# Altium footprint library AP1509-33SG-13.PcbLib: 1 footprints
Each footprint in its own frame and in the unit in brackets; x right, y up, seen from the top. Pads: shape width x height; smd on the part's side, far side on the other; paste and mask are expansions set on the pad; w line width, h text height; cw(c..) or ccw(c..) is an arc to the next point about the centre after c.
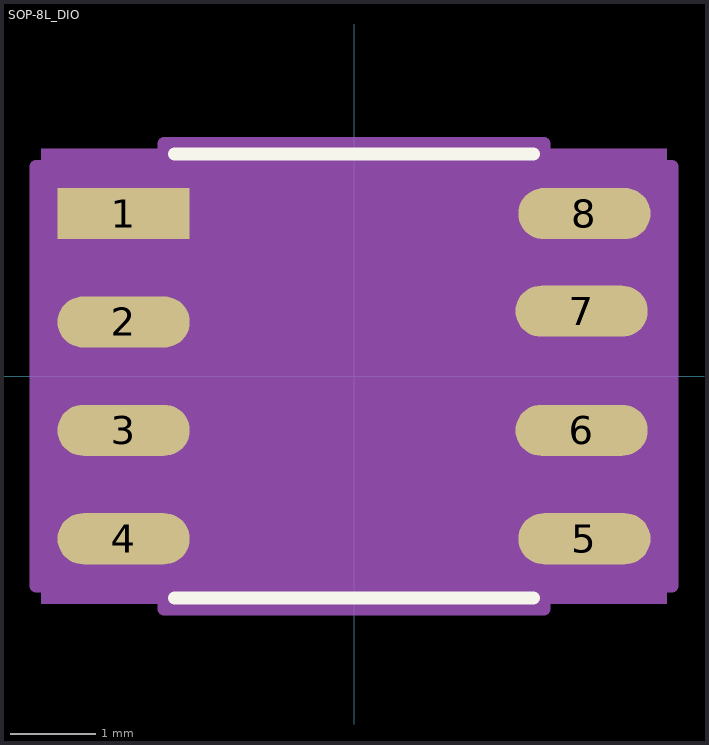
[diagram p0: the footprint, top view; thin cyan lines are the x and y axes]

## SOP-8L_DIO [mm]
pads (8):
  rect 1.55x0.6 smd paste+0 mask+0: 1(-2.7,1.905)
  oval 1.55x0.6 smd paste+0 mask+0: 2(-2.7,0.635) 3(-2.7,-0.635) 4(-2.7,-1.905) 5(2.7,-1.905) 6(2.667,-0.635) 7(2.667,0.762) 8(2.7,1.905)
Top Overlay:
  lines w0.152: -2.102,-2.602 2.102,-2.602 ; -2.102,2.602 2.102,2.602
Mechanical 5:
  region: 3.665,-2.665 -3.665,-2.665 -3.665,2.665 3.665,2.665
Mechanical 13:
  lines w0: -0.305,2.475 ccw(c0,2.475) 0.305,2.475
  lines w0.025: -1.975,-2.475 -1.975,2.475 1.975,2.475 1.975,-2.475 -1.975,-2.475
Mechanical 15:
  region: -2.229,-2.459 -3.729,-2.459 -3.729,2.459 -2.229,2.459 -2.229,2.729 2.229,2.729 2.229,2.459 3.729,2.459 3.729,-2.459 2.229,-2.459 2.229,-2.729 -2.229,-2.729
  lines w0.152: -3.729,-2.459 -2.229,-2.459 -2.229,-2.729 2.229,-2.729 2.229,-2.459 3.729,-2.459 3.729,2.459 2.229,2.459 2.229,2.729 -2.229,2.729 -2.229,2.459 -3.729,2.459 -3.729,-2.459
3D body "SOP-8L_DIO.step": height 1.75, standoff 0, extent -3.125,-2.475 3.125,2.475